# EAGLE library part SIMPLEH-CONNECTOR (library (custom)-connectors-and-modules)
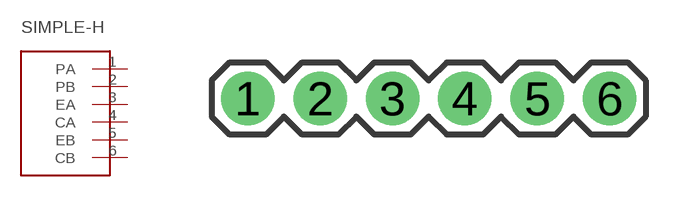
[diagram p6: symbol with the pads of 1X06; footprint 1X06]

Designator prefix SIMPLE-H

## SIMPLEH-CONNECTOR  [1X06]
1  PA
2  PB
3  EA
4  CA
5  EB
6  CB

## Footprint 1X06 (pad centres in mm)
drill 1.016 pad 1.88: 1 0,0; 2 2.54,0; 3 5.08,0; 4 7.62,0; 5 10.16,0; 6 12.7,0